# EAGLE library part OLIMEX_ESP8266 (library Olimex_ESP8266)
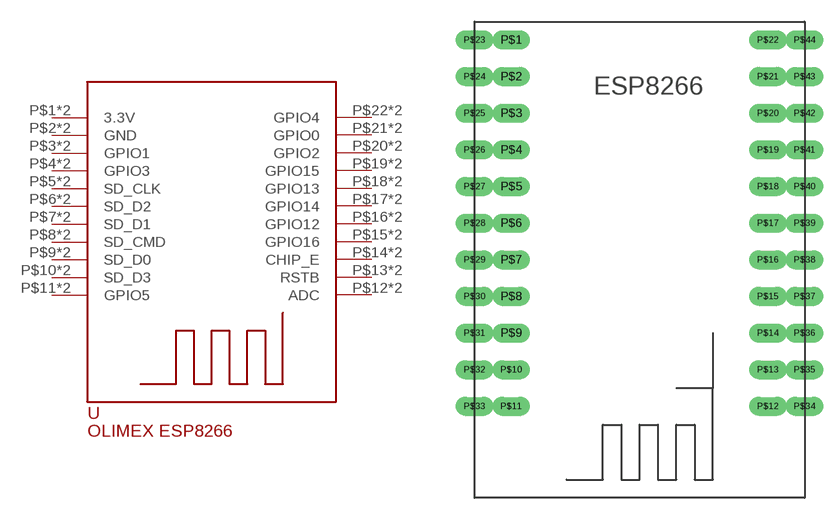
[diagram p0: symbol with the pads of OLIMEX_ESP8266_DIP22; footprint OLIMEX_ESP8266_DIP22]

Designator prefix U

## OLIMEX_ESP8266  [OLIMEX_ESP8266_DIP22]
P$1  3.3V
P$2  GND
P$3  GPIO1
P$4  GPIO3
P$5  SD_CLK
P$6  SD_D2
P$7  SD_D1
P$8  SD_CMD
P$9  SD_D0
P$10  SD_D3
P$11  GPIO5
P$12  ADC
P$13  RSTB
P$14  CHIP_E
P$15  GPIO16
P$16  GPIO12
P$17  GPIO14
P$18  GPIO13
P$19  GPIO15
P$20  GPIO2
P$21  GPIO0
P$22  GPIO4
P$23  3.3V
P$24  GND
P$25  GPIO1
P$26  GPIO3
P$27  SD_CLK
P$28  SD_D2
P$29  SD_D1
P$30  SD_CMD
P$31  SD_D0
P$32  SD_D3
P$33  GPIO5
P$34  ADC
P$35  RSTB
P$36  CHIP_E
P$37  GPIO16
P$38  GPIO12
P$39  GPIO14
P$40  GPIO13
P$41  GPIO15
P$42  GPIO2
P$43  GPIO0
P$44  GPIO4

## Footprint OLIMEX_ESP8266_DIP22 (pad centres in mm)
drill 0.8 long: P$1 -8.89,17.78; P$2 -8.89,15.24; P$3 -8.89,12.7; P$4 -8.89,10.16; P$5 -8.89,7.62; P$6 -8.89,5.08; P$7 -8.89,2.54; P$8 -8.89,0; P$9 -8.89,-2.54; P$10 -8.89,-5.08; P$11 -8.89,-7.62; P$12 8.89,-7.62; P$13 8.89,-5.08; P$14 8.89,-2.54; P$15 8.89,0; P$16 8.89,2.54; P$17 8.89,5.08; P$18 8.89,7.62; P$19 8.89,10.16; P$20 8.89,12.7; P$21 8.89,15.24; P$22 8.89,17.78; P$23 -11.43,17.78; P$24 -11.43,15.24; P$25 -11.43,12.7; P$26 -11.43,10.16; P$27 -11.43,7.62; P$28 -11.43,5.08; P$29 -11.43,2.54; P$30 -11.43,0; P$31 -11.43,-2.54; P$32 -11.43,-5.08; P$33 -11.43,-7.62; P$34 11.43,-7.62; P$35 11.43,-5.08; P$36 11.43,-2.54; P$37 11.43,0; P$38 11.43,2.54; P$39 11.43,5.08; P$40 11.43,7.62; P$41 11.43,10.16; P$42 11.43,12.7; P$43 11.43,15.24; P$44 11.43,17.78